# Altium integrated library MIC5205-3.0YM5-TR.IntLib: 1 symbol
Pins are listed as number, name and electrical type; pins without a type are passive.

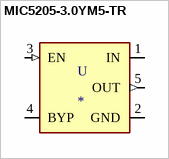
[diagram p0: symbol MIC5205-3.0YM5-TR]

## MIC5205-3.0YM5-TR
designator U
Linear Voltage Regulator IC 1 Output 150mA SOT-23-5; MP: MIC5205-3.0YM5-TR; MF: Microchip; Value: *; SnapEDA_Link: https://www.snapeda.com/parts/MIC5205-3.0YM5-TR/Microchip/view-part/563464/?ref=snap; Availability: Unavailable; Price: None; Package: SOT-23-5 Microchip
footprint SOT95P280X145-5N
pins: 1 IN (power), 2 GND (power), 3 EN (in), 4 BYP, 5 OUT (out)